# Altium integrated library Microchip PIC16 Part 2.IntLib: 1569 symbols (part 39 of 56)
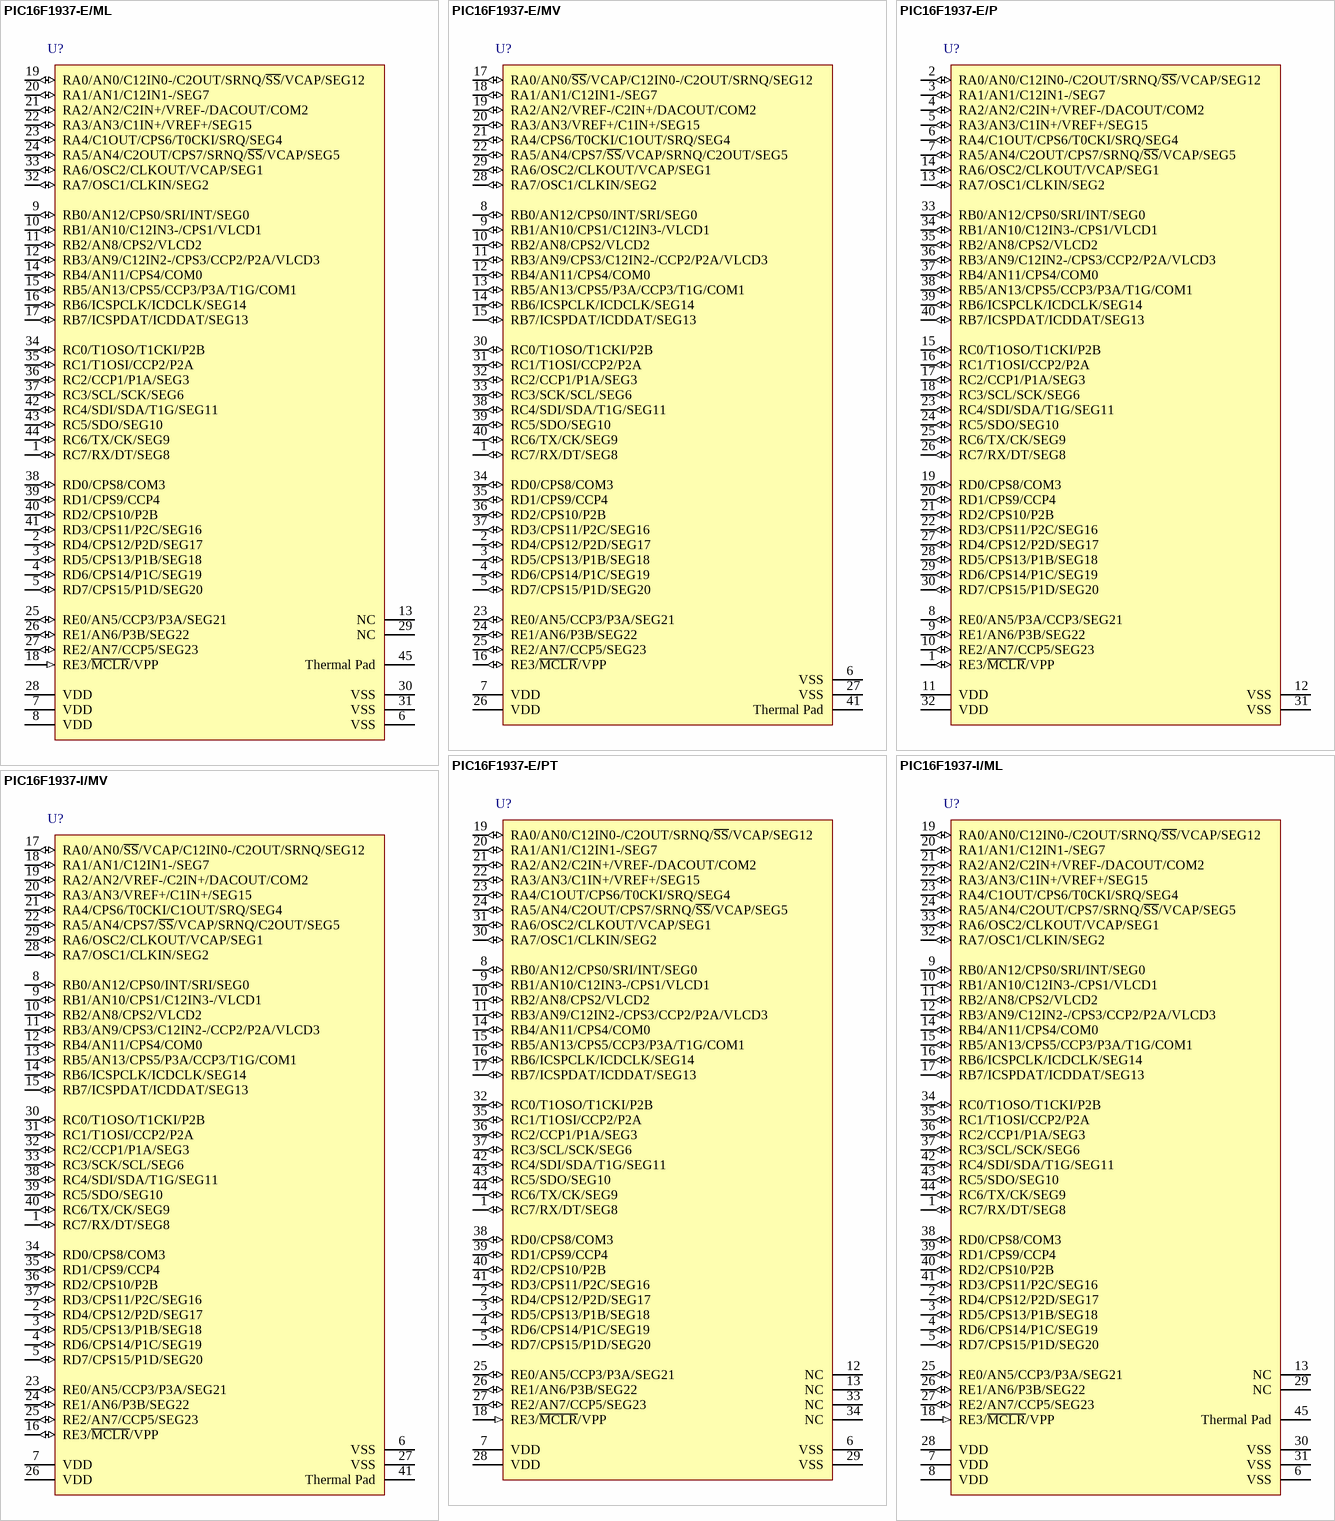
[diagram p163: symbols PIC16F1937-E/ML to PIC16F1937-I/MV]

## PIC16F1937-E/ML
designator U?
CMOS Microcontroller with LCD Driver, 8K (words) Program Memory, 256 Bytes Data Memory, 512 Bytes SRAM, 36 I/O's, 1.8V-5.5V, 44-Pin QFN, Extended Temperature; Manufacturer: Microchip; PartNumber: PIC16F1937-E/ML; DatasheetVersion: revE, May-2011; PackageVersion: revBB, Aug-2009; PackageReference: QFN-ML44; PackageDescription: 44-Lead Plastic Quad Flat, No Lead Package (ML) - 8x8 mm Body [QFN]; Supplier 1: Digi-Key; Supplier Part Number 1: PIC16F1937-E/ML-ND; Supplier 2: Mouser; Supplier Part Number 2: 579-PIC16F1937-E/ML; Code_JEDEC: MO-220; Code_IPC: QFN65P800X800-44V2; ComponentLink1Description: Manufacturer URL; ComponentLink1URL: http://www.microchip.com/; ComponentLink2Description: Datasheet; ComponentLink2URL: http://ww1.microchip.com/downloads/en/DeviceDoc/41364E.pdf; ComponentLink3Description: Package Specification; ComponentLink3URL: http://www.microchip.com/stellent/groups/techpub_sg/documents/packagingspec/en012702.pdf
footprint QFN-ML44_N (QFN, 44-Leads, Body 8x8mm, Pitch 0.65mm, Thermal Pad 6.8x6.8mm, IPC Medium Density)
footprint QFN-ML44_L (QFN, 44-Leads, Body 8x8mm, Pitch 0.65mm, Thermal Pad 6.8x6.8mm, IPC High Density)
footprint QFN-ML44_M (QFN, 44-Leads, Body 8x8mm, Pitch 0.65mm, Thermal Pad 6.8x6.8mm, IPC Low Density)
pins: 1 RC7/RX/DT/SEG8 (io), 2 RD4/CPS12/P2D/SEG17 (io), 3 RD5/CPS13/P1B/SEG18 (io), 4 RD6/CPS14/P1C/SEG19 (io), 5 RD7/CPS15/P1D/SEG20 (io), 6 VSS (power), 7 VDD (power), 8 VDD (power), 9 RB0/AN12/CPS0/SRI/INT/SEG0 (io), 10 RB1/AN10/C12IN3-/CPS1/VLCD1 (io), 11 RB2/AN8/CPS2/VLCD2 (io), 12 RB3/AN9/C12IN2-/CPS3/CCP2/P2A/VLCD3 (io), 13 NC, 14 RB4/AN11/CPS4/COM0 (io), 15 RB5/AN13/CPS5/CCP3/P3A/T1G/COM1 (io), 16 RB6/ICSPCLK/ICDCLK/SEG14 (io), 17 RB7/ICSPDAT/ICDDAT/SEG13 (io), 18 RE3/~{MCLR}/VPP (in), 19 RA0/AN0/C12IN0-/C2OUT/SRNQ/~{SS}/VCAP/SEG12 (io), 20 RA1/AN1/C12IN1-/SEG7 (io), 21 RA2/AN2/C2IN+/VREF-/DACOUT/COM2 (io), 22 RA3/AN3/C1IN+/VREF+/SEG15 (io), 23 RA4/C1OUT/CPS6/T0CKI/SRQ/SEG4 (io), 24 RA5/AN4/C2OUT/CPS7/SRNQ/~{SS}/VCAP/SEG5 (io), 25 RE0/AN5/CCP3/P3A/SEG21 (io), 26 RE1/AN6/P3B/SEG22 (io), 27 RE2/AN7/CCP5/SEG23 (io), 28 VDD (power), 29 NC, 30 VSS (power), 31 VSS (power), 32 RA7/OSC1/CLKIN/SEG2 (io), 33 RA6/OSC2/CLKOUT/VCAP/SEG1 (io), 34 RC0/T1OSO/T1CKI/P2B (io), 35 RC1/T1OSI/CCP2/P2A (io), 36 RC2/CCP1/P1A/SEG3 (io), 37 RC3/SCL/SCK/SEG6 (io), 38 RD0/CPS8/COM3 (io), 39 RD1/CPS9/CCP4 (io), 40 RD2/CPS10/P2B (io), 41 RD3/CPS11/P2C/SEG16 (io), 42 RC4/SDI/SDA/T1G/SEG11 (io), 43 RC5/SDO/SEG10 (io), 44 RC6/TX/CK/SEG9 (io), 45 Thermal Pad (power)

## PIC16F1937-E/MV
designator U?
CMOS Microcontroller with LCD Driver, 8K (words) Program Memory, 256 Bytes Data Memory, 512 Bytes SRAM, 36 I/O's, 1.8V-5.5V, 40-Pin UQFN, Extended Temperature, Tube; Manufacturer: Microchip; PartNumber: PIC16F1937-E/MV; DatasheetVersion: revE, May-2011; PackageVersion: revBJ, Dec-2011; PackageReference: UQFN-MV40; PackageDescription: 40-Lead Plastic Ultra Thin Quad Flat, No Lead Package (MV) - 5x5x0.5 mm Body [UQFN]; Supplier 1: Digi-Key; Supplier Part Number 1: PIC16F1937-E/MV-ND; Supplier 2: Mouser; Supplier Part Number 2: 579-PIC16F1937-E/MV; ComponentLink1Description: Manufacturer URL; ComponentLink1URL: http://www.microchip.com/; ComponentLink2Description: Datasheet; ComponentLink2URL: http://ww1.microchip.com/downloads/en/DeviceDoc/41364E.pdf
footprint UQFN-MV40_N (QFN, 40-Leads, Body 5x5mm, Pitch 0.4mm, Thermal Pad 3.7x3.7mm, IPC Medium Density)
footprint UQFN-MV40_L (QFN, 40-Leads, Body 5x5mm, Pitch 0.4mm, Thermal Pad 3.7x3.7mm, IPC High Density)
footprint UQFN-MV40_M (QFN, 40-Leads, Body 5x5mm, Pitch 0.4mm, Thermal Pad 3.7x3.7mm, IPC Low Density)
pins: 1 RC7/RX/DT/SEG8 (io), 2 RD4/CPS12/P2D/SEG17 (io), 3 RD5/CPS13/P1B/SEG18 (io), 4 RD6/CPS14/P1C/SEG19 (io), 5 RD7/CPS15/P1D/SEG20 (io), 6 VSS (power), 7 VDD (power), 8 RB0/AN12/CPS0/INT/SRI/SEG0 (io), 9 RB1/AN10/CPS1/C12IN3-/VLCD1 (io), 10 RB2/AN8/CPS2/VLCD2 (io), 11 RB3/AN9/CPS3/C12IN2-/CCP2/P2A/VLCD3 (io), 12 RB4/AN11/CPS4/COM0 (io), 13 RB5/AN13/CPS5/P3A/CCP3/T1G/COM1 (io), 14 RB6/ICSPCLK/ICDCLK/SEG14 (io), 15 RB7/ICSPDAT/ICDDAT/SEG13 (io), 16 RE3/~{MCLR}/VPP (io), 17 RA0/AN0/~{SS}/VCAP/C12IN0-/C2OUT/SRNQ/SEG12 (io), 18 RA1/AN1/C12IN1-/SEG7 (io), 19 RA2/AN2/VREF-/C2IN+/DACOUT/COM2 (io), 20 RA3/AN3/VREF+/C1IN+/SEG15 (io), 21 RA4/CPS6/T0CKI/C1OUT/SRQ/SEG4 (io), 22 RA5/AN4/CPS7/~{SS}/VCAP/SRNQ/C2OUT/SEG5 (io), 23 RE0/AN5/CCP3/P3A/SEG21 (io), 24 RE1/AN6/P3B/SEG22 (io), 25 RE2/AN7/CCP5/SEG23 (io), 26 VDD (power), 27 VSS (power), 28 RA7/OSC1/CLKIN/SEG2 (io), 29 RA6/OSC2/CLKOUT/VCAP/SEG1 (io), 30 RC0/T1OSO/T1CKI/P2B (io), 31 RC1/T1OSI/CCP2/P2A (io), 32 RC2/CCP1/P1A/SEG3 (io), 33 RC3/SCK/SCL/SEG6 (io), 34 RD0/CPS8/COM3 (io), 35 RD1/CPS9/CCP4 (io), 36 RD2/CPS10/P2B (io), 37 RD3/CPS11/P2C/SEG16 (io), 38 RC4/SDI/SDA/T1G/SEG11 (io), 39 RC5/SDO/SEG10 (io), 40 RC6/TX/CK/SEG9 (io), 41 Thermal Pad (power)

## PIC16F1937-E/P
designator U?
CMOS Microcontroller with LCD Driver, 8K (words) Program Memory, 256 Bytes Data Memory, 512 Bytes SRAM, 36 I/O's, 1.8V-5.5V, 40-Pin PDIP, Extended Temperature; Manufacturer: Microchip; PartNumber: PIC16F1937-E/P; DatasheetVersion: revE, May-2011; PackageVersion: revBB, Aug-2009; PackageReference: PDIP600-P40; PackageDescription: 40-Lead Plastic Dual In-Line (P) - 600 mil Body [PDIP]; Supplier 1: Digi-Key; Supplier Part Number 1: PIC16F1937-E/P-ND; Supplier 2: Mouser; Supplier Part Number 2: 579-PIC16F1937-E/P; ComponentLink1Description: Manufacturer URL; ComponentLink1URL: http://www.microchip.com/; ComponentLink2Description: Datasheet; ComponentLink2URL: http://ww1.microchip.com/downloads/en/DeviceDoc/41364E.pdf; ComponentLink3Description: Package Specification; ComponentLink3URL: http://www.microchip.com/stellent/groups/techpub_sg/documents/packagingspec/en012702.pdf
footprint PDIP600-P40 (DIP, 40-Leads, Row Spacing 15.24mm, Pitch 2.54mm, Body 51.8x13.5mm)
pins: 1 RE3/~{MCLR}/VPP (io), 2 RA0/AN0/C12IN0-/C2OUT/SRNQ/~{SS}/VCAP/SEG12 (io), 3 RA1/AN1/C12IN1-/SEG7 (io), 4 RA2/AN2/C2IN+/VREF-/DACOUT/COM2 (io), 5 RA3/AN3/C1IN+/VREF+/SEG15 (io), 6 RA4/C1OUT/CPS6/T0CKI/SRQ/SEG4 (io), 7 RA5/AN4/C2OUT/CPS7/SRNQ/~{SS}/VCAP/SEG5 (io), 8 RE0/AN5/P3A/CCP3/SEG21 (io), 9 RE1/AN6/P3B/SEG22 (io), 10 RE2/AN7/CCP5/SEG23 (io), 11 VDD (power), 12 VSS (power), 13 RA7/OSC1/CLKIN/SEG2 (io), 14 RA6/OSC2/CLKOUT/VCAP/SEG1 (io), 15 RC0/T1OSO/T1CKI/P2B (io), 16 RC1/T1OSI/CCP2/P2A (io), 17 RC2/CCP1/P1A/SEG3 (io), 18 RC3/SCL/SCK/SEG6 (io), 19 RD0/CPS8/COM3 (io), 20 RD1/CPS9/CCP4 (io), 21 RD2/CPS10/P2B (io), 22 RD3/CPS11/P2C/SEG16 (io), 23 RC4/SDI/SDA/T1G/SEG11 (io), 24 RC5/SDO/SEG10 (io), 25 RC6/TX/CK/SEG9 (io), 26 RC7/RX/DT/SEG8 (io), 27 RD4/CPS12/P2D/SEG17 (io), 28 RD5/CPS13/P1B/SEG18 (io), 29 RD6/CPS14/P1C/SEG19 (io), 30 RD7/CPS15/P1D/SEG20 (io), 31 VSS (power), 32 VDD (power), 33 RB0/AN12/CPS0/SRI/INT/SEG0 (io), 34 RB1/AN10/C12IN3-/CPS1/VLCD1 (io), 35 RB2/AN8/CPS2/VLCD2 (io), 36 RB3/AN9/C12IN2-/CPS3/CCP2/P2A/VLCD3 (io), 37 RB4/AN11/CPS4/COM0 (io), 38 RB5/AN13/CPS5/CCP3/P3A/T1G/COM1 (io), 39 RB6/ICSPCLK/ICDCLK/SEG14 (io), 40 RB7/ICSPDAT/ICDDAT/SEG13 (io)

## PIC16F1937-E/PT
designator U?
CMOS Microcontroller with LCD Driver, 8K (words) Program Memory, 256 Bytes Data Memory, 512 Bytes SRAM, 36 I/O's, 1.8V-5.5V, 44-Pin TQFP, Extended Temperature, Tray; Manufacturer: Microchip; PartNumber: PIC16F1937-E/PT; DatasheetVersion: revE, May-2011; PackageVersion: revBB, Aug-2009; PackageReference: TQFP-PT44; PackageDescription: 44-Lead Plastic Thin Quad Flatpack (PT) - 10x10x1mm Body, 2.00mm [TQFP]; Supplier 1: Digi-Key; Supplier Part Number 1: PIC16F1937-E/PT-ND; Supplier 2: Mouser; Supplier Part Number 2: 579-PIC16F1937-E/PT; Code_JEDEC: MS-026; ComponentLink1Description: Manufacturer URL; ComponentLink1URL: http://www.microchip.com/; ComponentLink2Description: Datasheet; ComponentLink2URL: http://ww1.microchip.com/downloads/en/DeviceDoc/41364E.pdf
footprint TQFP-PT44_N (Thin QFP, 44-Leads, Body 10x10mm, Pitch 0.8mm, IPC Medium Density)
footprint TQFP-PT44_L (Thin QFP, 44-Leads, Body 10x10mm, Pitch 0.8mm, IPC High Density)
footprint TQFP-PT44_M (Thin QFP, 44-Leads, Body 10x10mm, Pitch 0.8mm, IPC Low Density)
pins: 1 RC7/RX/DT/SEG8 (io), 2 RD4/CPS12/P2D/SEG17 (io), 3 RD5/CPS13/P1B/SEG18 (io), 4 RD6/CPS14/P1C/SEG19 (io), 5 RD7/CPS15/P1D/SEG20 (io), 6 VSS (power), 7 VDD (power), 8 RB0/AN12/CPS0/SRI/INT/SEG0 (io), 9 RB1/AN10/C12IN3-/CPS1/VLCD1 (io), 10 RB2/AN8/CPS2/VLCD2 (io), 11 RB3/AN9/C12IN2-/CPS3/CCP2/P2A/VLCD3 (io), 12 NC, 13 NC, 14 RB4/AN11/CPS4/COM0 (io), 15 RB5/AN13/CPS5/CCP3/P3A/T1G/COM1 (io), 16 RB6/ICSPCLK/ICDCLK/SEG14 (io), 17 RB7/ICSPDAT/ICDDAT/SEG13 (io), 18 RE3/~{MCLR}/VPP (in), 19 RA0/AN0/C12IN0-/C2OUT/SRNQ/~{SS}/VCAP/SEG12 (io), 20 RA1/AN1/C12IN1-/SEG7 (io), 21 RA2/AN2/C2IN+/VREF-/DACOUT/COM2 (io), 22 RA3/AN3/C1IN+/VREF+/SEG15 (io), 23 RA4/C1OUT/CPS6/T0CKI/SRQ/SEG4 (io), 24 RA5/AN4/C2OUT/CPS7/SRNQ/~{SS}/VCAP/SEG5 (io), 25 RE0/AN5/CCP3/P3A/SEG21 (io), 26 RE1/AN6/P3B/SEG22 (io), 27 RE2/AN7/CCP5/SEG23 (io), 28 VDD (power), 29 VSS (power), 30 RA7/OSC1/CLKIN/SEG2 (io), 31 RA6/OSC2/CLKOUT/VCAP/SEG1 (io), 32 RC0/T1OSO/T1CKI/P2B (io), 33 NC, 34 NC, 35 RC1/T1OSI/CCP2/P2A (io), 36 RC2/CCP1/P1A/SEG3 (io), 37 RC3/SCL/SCK/SEG6 (io), 38 RD0/CPS8/COM3 (io), 39 RD1/CPS9/CCP4 (io), 40 RD2/CPS10/P2B (io), 41 RD3/CPS11/P2C/SEG16 (io), 42 RC4/SDI/SDA/T1G/SEG11 (io), 43 RC5/SDO/SEG10 (io), 44 RC6/TX/CK/SEG9 (io)

## PIC16F1937-I/ML
designator U?
CMOS Microcontroller with LCD Driver, 8K (words) Program Memory, 256 Bytes Data Memory, 512 Bytes SRAM, 36 I/O's, 1.8V-5.5V, 44-Pin QFN, Industrial Temperature; Manufacturer: Microchip; PartNumber: PIC16F1937-I/ML; DatasheetVersion: revE, May-2011; PackageVersion: revBB, Aug-2009; PackageReference: QFN-ML44; PackageDescription: 44-Lead Plastic Quad Flat, No Lead Package (ML) - 8x8 mm Body [QFN]; Supplier 1: Digi-Key; Supplier Part Number 1: PIC16F1937-I/ML-ND; Supplier 2: Farnell; Supplier Part Number 2: 1755824; Supplier 3: Mouser; Supplier Part Number 3: 579-PIC16F1937-I/ML; Code_JEDEC: MO-220; Code_IPC: QFN65P800X800-44V2; ComponentLink1Description: Manufacturer URL; ComponentLink1URL: http://www.microchip.com/; ComponentLink2Description: Datasheet; ComponentLink2URL: http://ww1.microchip.com/downloads/en/DeviceDoc/41364E.pdf; ComponentLink3Description: Package Specification; ComponentLink3URL: http://www.microchip.com/stellent/groups/techpub_sg/documents/packagingspec/en012702.pdf
footprint QFN-ML44_N (QFN, 44-Leads, Body 8x8mm, Pitch 0.65mm, Thermal Pad 6.8x6.8mm, IPC Medium Density)
footprint QFN-ML44_L (QFN, 44-Leads, Body 8x8mm, Pitch 0.65mm, Thermal Pad 6.8x6.8mm, IPC High Density)
footprint QFN-ML44_M (QFN, 44-Leads, Body 8x8mm, Pitch 0.65mm, Thermal Pad 6.8x6.8mm, IPC Low Density)
pins: 1 RC7/RX/DT/SEG8 (io), 2 RD4/CPS12/P2D/SEG17 (io), 3 RD5/CPS13/P1B/SEG18 (io), 4 RD6/CPS14/P1C/SEG19 (io), 5 RD7/CPS15/P1D/SEG20 (io), 6 VSS (power), 7 VDD (power), 8 VDD (power), 9 RB0/AN12/CPS0/SRI/INT/SEG0 (io), 10 RB1/AN10/C12IN3-/CPS1/VLCD1 (io), 11 RB2/AN8/CPS2/VLCD2 (io), 12 RB3/AN9/C12IN2-/CPS3/CCP2/P2A/VLCD3 (io), 13 NC, 14 RB4/AN11/CPS4/COM0 (io), 15 RB5/AN13/CPS5/CCP3/P3A/T1G/COM1 (io), 16 RB6/ICSPCLK/ICDCLK/SEG14 (io), 17 RB7/ICSPDAT/ICDDAT/SEG13 (io), 18 RE3/~{MCLR}/VPP (in), 19 RA0/AN0/C12IN0-/C2OUT/SRNQ/~{SS}/VCAP/SEG12 (io), 20 RA1/AN1/C12IN1-/SEG7 (io), 21 RA2/AN2/C2IN+/VREF-/DACOUT/COM2 (io), 22 RA3/AN3/C1IN+/VREF+/SEG15 (io), 23 RA4/C1OUT/CPS6/T0CKI/SRQ/SEG4 (io), 24 RA5/AN4/C2OUT/CPS7/SRNQ/~{SS}/VCAP/SEG5 (io), 25 RE0/AN5/CCP3/P3A/SEG21 (io), 26 RE1/AN6/P3B/SEG22 (io), 27 RE2/AN7/CCP5/SEG23 (io), 28 VDD (power), 29 NC, 30 VSS (power), 31 VSS (power), 32 RA7/OSC1/CLKIN/SEG2 (io), 33 RA6/OSC2/CLKOUT/VCAP/SEG1 (io), 34 RC0/T1OSO/T1CKI/P2B (io), 35 RC1/T1OSI/CCP2/P2A (io), 36 RC2/CCP1/P1A/SEG3 (io), 37 RC3/SCL/SCK/SEG6 (io), 38 RD0/CPS8/COM3 (io), 39 RD1/CPS9/CCP4 (io), 40 RD2/CPS10/P2B (io), 41 RD3/CPS11/P2C/SEG16 (io), 42 RC4/SDI/SDA/T1G/SEG11 (io), 43 RC5/SDO/SEG10 (io), 44 RC6/TX/CK/SEG9 (io), 45 Thermal Pad (power)

## PIC16F1937-I/MV
designator U?
CMOS Microcontroller with LCD Driver, 8K (words) Program Memory, 256 Bytes Data Memory, 512 Bytes SRAM, 36 I/O's, 1.8V-5.5V, 40-Pin UQFN, Industrial Temperature, Tube; Manufacturer: Microchip; PartNumber: PIC16F1937-I/MV; DatasheetVersion: revE, May-2011; PackageVersion: revBJ, Dec-2011; PackageReference: UQFN-MV40; PackageDescription: 40-Lead Plastic Ultra Thin Quad Flat, No Lead Package (MV) - 5x5x0.5 mm Body [UQFN]; Supplier 1: Digi-Key; Supplier Part Number 1: PIC16F1937-I/MV-ND; Supplier 2: Newark; Supplier Part Number 2: 13T4729; Supplier 3: Mouser; Supplier Part Number 3: 579-PIC16F1937-I/MV; ComponentLink1Description: Manufacturer URL; ComponentLink1URL: http://www.microchip.com/; ComponentLink2Description: Datasheet; ComponentLink2URL: http://ww1.microchip.com/downloads/en/DeviceDoc/41364E.pdf
footprint UQFN-MV40_N (QFN, 40-Leads, Body 5x5mm, Pitch 0.4mm, Thermal Pad 3.7x3.7mm, IPC Medium Density)
footprint UQFN-MV40_L (QFN, 40-Leads, Body 5x5mm, Pitch 0.4mm, Thermal Pad 3.7x3.7mm, IPC High Density)
footprint UQFN-MV40_M (QFN, 40-Leads, Body 5x5mm, Pitch 0.4mm, Thermal Pad 3.7x3.7mm, IPC Low Density)
pins: 1 RC7/RX/DT/SEG8 (io), 2 RD4/CPS12/P2D/SEG17 (io), 3 RD5/CPS13/P1B/SEG18 (io), 4 RD6/CPS14/P1C/SEG19 (io), 5 RD7/CPS15/P1D/SEG20 (io), 6 VSS (power), 7 VDD (power), 8 RB0/AN12/CPS0/INT/SRI/SEG0 (io), 9 RB1/AN10/CPS1/C12IN3-/VLCD1 (io), 10 RB2/AN8/CPS2/VLCD2 (io), 11 RB3/AN9/CPS3/C12IN2-/CCP2/P2A/VLCD3 (io), 12 RB4/AN11/CPS4/COM0 (io), 13 RB5/AN13/CPS5/P3A/CCP3/T1G/COM1 (io), 14 RB6/ICSPCLK/ICDCLK/SEG14 (io), 15 RB7/ICSPDAT/ICDDAT/SEG13 (io), 16 RE3/~{MCLR}/VPP (io), 17 RA0/AN0/~{SS}/VCAP/C12IN0-/C2OUT/SRNQ/SEG12 (io), 18 RA1/AN1/C12IN1-/SEG7 (io), 19 RA2/AN2/VREF-/C2IN+/DACOUT/COM2 (io), 20 RA3/AN3/VREF+/C1IN+/SEG15 (io), 21 RA4/CPS6/T0CKI/C1OUT/SRQ/SEG4 (io), 22 RA5/AN4/CPS7/~{SS}/VCAP/SRNQ/C2OUT/SEG5 (io), 23 RE0/AN5/CCP3/P3A/SEG21 (io), 24 RE1/AN6/P3B/SEG22 (io), 25 RE2/AN7/CCP5/SEG23 (io), 26 VDD (power), 27 VSS (power), 28 RA7/OSC1/CLKIN/SEG2 (io), 29 RA6/OSC2/CLKOUT/VCAP/SEG1 (io), 30 RC0/T1OSO/T1CKI/P2B (io), 31 RC1/T1OSI/CCP2/P2A (io), 32 RC2/CCP1/P1A/SEG3 (io), 33 RC3/SCK/SCL/SEG6 (io), 34 RD0/CPS8/COM3 (io), 35 RD1/CPS9/CCP4 (io), 36 RD2/CPS10/P2B (io), 37 RD3/CPS11/P2C/SEG16 (io), 38 RC4/SDI/SDA/T1G/SEG11 (io), 39 RC5/SDO/SEG10 (io), 40 RC6/TX/CK/SEG9 (io), 41 Thermal Pad (power)

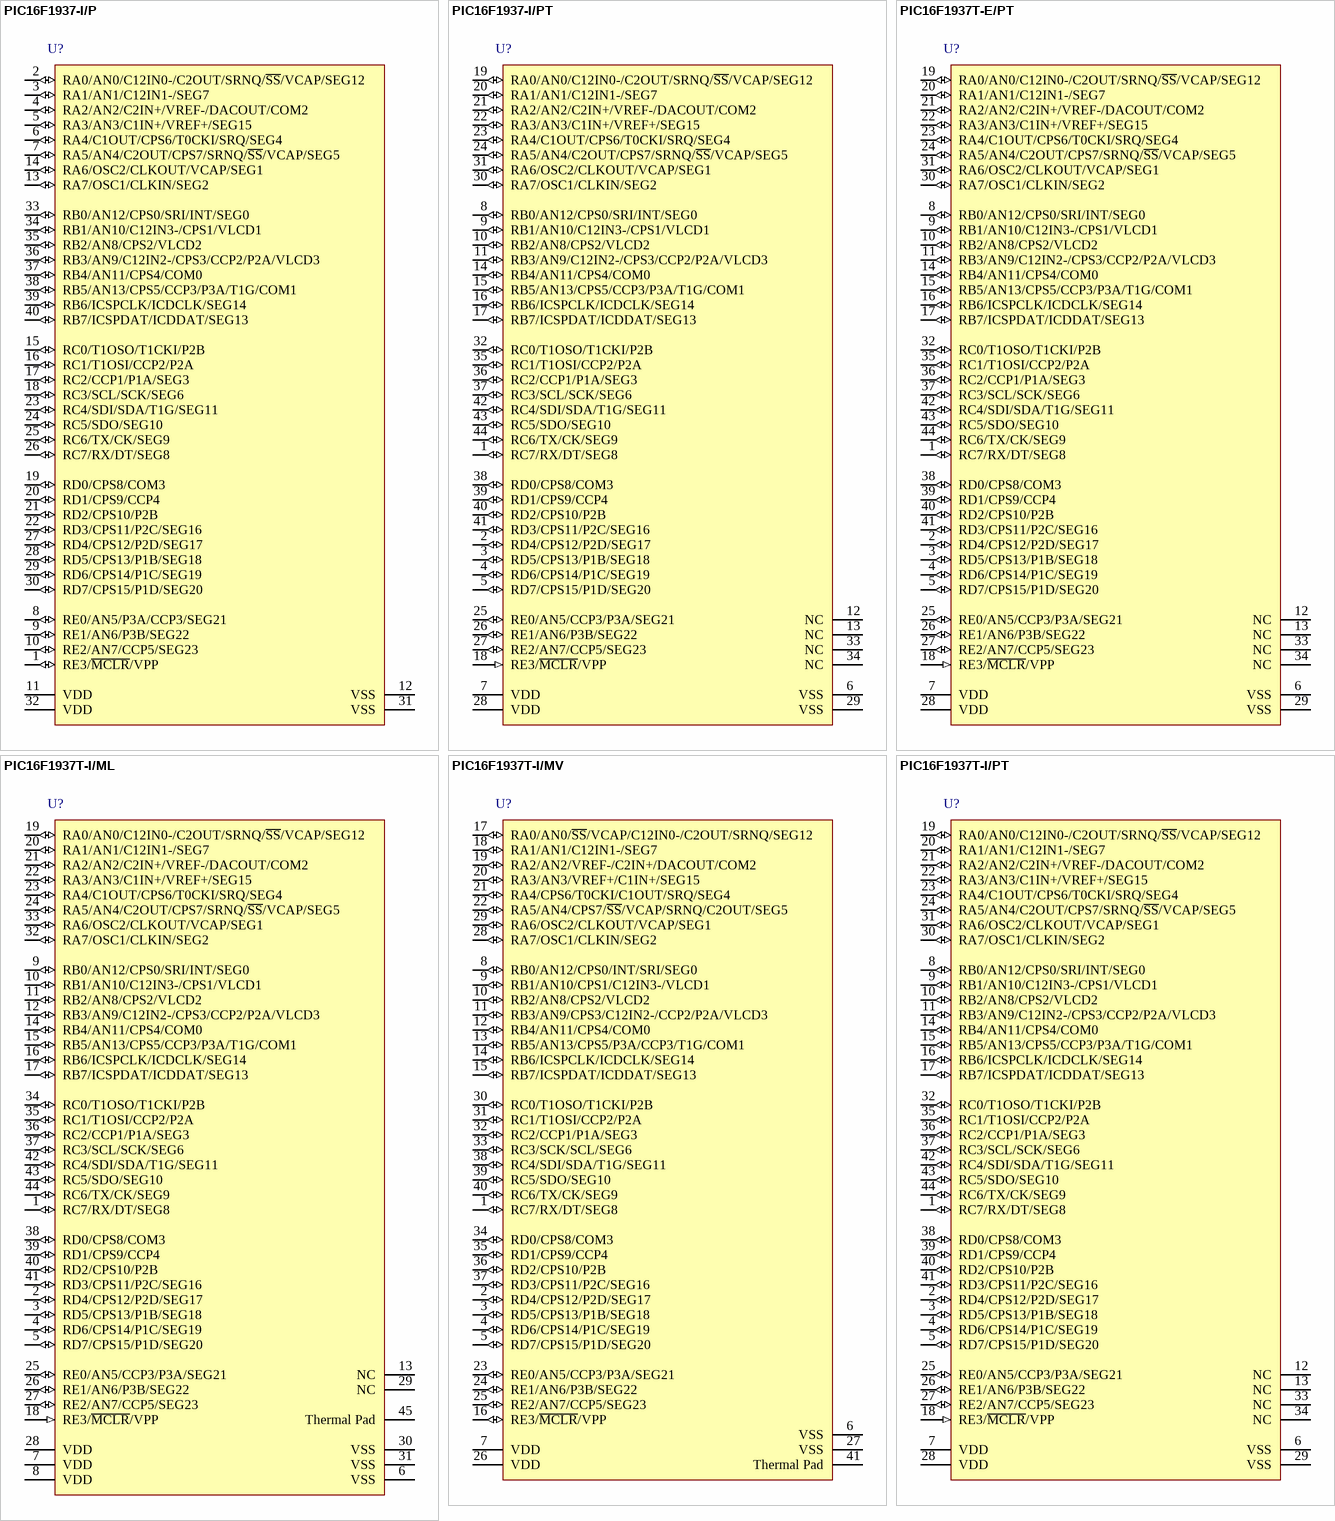
[diagram p84: symbols PIC16F1937-I/P to PIC16F1937T-I/PT]

## PIC16F1937-I/P
designator U?
CMOS Microcontroller with LCD Driver, 8K (words) Program Memory, 256 Bytes Data Memory, 512 Bytes SRAM, 36 I/O's, 1.8V-5.5V, 40-Pin PDIP, Industrial Temperature; Manufacturer: Microchip; PartNumber: PIC16F1937-I/P; DatasheetVersion: revE, May-2011; PackageVersion: revBB, Aug-2009; PackageReference: PDIP600-P40; PackageDescription: 40-Lead Plastic Dual In-Line (P) - 600 mil Body [PDIP]; Supplier 1: Digi-Key; Supplier Part Number 1: PIC16F1937-I/P-ND; Supplier 2: Farnell; Supplier Part Number 2: 1755825; Supplier 3: Newark; Supplier Part Number 3: 45P4774; Supplier 4: Mouser; Supplier Part Number 4: 579-PIC16F1937-I/P; ComponentLink1Description: Manufacturer URL; ComponentLink1URL: http://www.microchip.com/; ComponentLink2Description: Datasheet; ComponentLink2URL: http://ww1.microchip.com/downloads/en/DeviceDoc/41364E.pdf; ComponentLink3Description: Package Specification; ComponentLink3URL: http://www.microchip.com/stellent/groups/techpub_sg/documents/packagingspec/en012702.pdf
footprint PDIP600-P40 (DIP, 40-Leads, Row Spacing 15.24mm, Pitch 2.54mm, Body 51.8x13.5mm)
pins: 1 RE3/~{MCLR}/VPP (io), 2 RA0/AN0/C12IN0-/C2OUT/SRNQ/~{SS}/VCAP/SEG12 (io), 3 RA1/AN1/C12IN1-/SEG7 (io), 4 RA2/AN2/C2IN+/VREF-/DACOUT/COM2 (io), 5 RA3/AN3/C1IN+/VREF+/SEG15 (io), 6 RA4/C1OUT/CPS6/T0CKI/SRQ/SEG4 (io), 7 RA5/AN4/C2OUT/CPS7/SRNQ/~{SS}/VCAP/SEG5 (io), 8 RE0/AN5/P3A/CCP3/SEG21 (io), 9 RE1/AN6/P3B/SEG22 (io), 10 RE2/AN7/CCP5/SEG23 (io), 11 VDD (power), 12 VSS (power), 13 RA7/OSC1/CLKIN/SEG2 (io), 14 RA6/OSC2/CLKOUT/VCAP/SEG1 (io), 15 RC0/T1OSO/T1CKI/P2B (io), 16 RC1/T1OSI/CCP2/P2A (io), 17 RC2/CCP1/P1A/SEG3 (io), 18 RC3/SCL/SCK/SEG6 (io), 19 RD0/CPS8/COM3 (io), 20 RD1/CPS9/CCP4 (io), 21 RD2/CPS10/P2B (io), 22 RD3/CPS11/P2C/SEG16 (io), 23 RC4/SDI/SDA/T1G/SEG11 (io), 24 RC5/SDO/SEG10 (io), 25 RC6/TX/CK/SEG9 (io), 26 RC7/RX/DT/SEG8 (io), 27 RD4/CPS12/P2D/SEG17 (io), 28 RD5/CPS13/P1B/SEG18 (io), 29 RD6/CPS14/P1C/SEG19 (io), 30 RD7/CPS15/P1D/SEG20 (io), 31 VSS (power), 32 VDD (power), 33 RB0/AN12/CPS0/SRI/INT/SEG0 (io), 34 RB1/AN10/C12IN3-/CPS1/VLCD1 (io), 35 RB2/AN8/CPS2/VLCD2 (io), 36 RB3/AN9/C12IN2-/CPS3/CCP2/P2A/VLCD3 (io), 37 RB4/AN11/CPS4/COM0 (io), 38 RB5/AN13/CPS5/CCP3/P3A/T1G/COM1 (io), 39 RB6/ICSPCLK/ICDCLK/SEG14 (io), 40 RB7/ICSPDAT/ICDDAT/SEG13 (io)

## PIC16F1937-I/PT
designator U?
CMOS Microcontroller with LCD Driver, 8K (words) Program Memory, 256 Bytes Data Memory, 512 Bytes SRAM, 36 I/O's, 1.8V-5.5V, 44-Pin TQFP, Industrial Temperature, Tray; Manufacturer: Microchip; PartNumber: PIC16F1937-I/PT; DatasheetVersion: revE, May-2011; PackageVersion: revBB, Aug-2009; PackageReference: TQFP-PT44; PackageDescription: 44-Lead Plastic Thin Quad Flatpack (PT) - 10x10x1mm Body, 2.00mm [TQFP]; Supplier 1: Digi-Key; Supplier Part Number 1: PIC16F1937-I/PT-ND; Supplier 2: Farnell; Supplier Part Number 2: 1755826; Supplier 3: Farnell; Supplier Part Number 3: 1755826MPKG; Supplier 4: Newark; Supplier Part Number 4: 45P4775; Supplier 5: Mouser; Supplier Part Number 5: 579-PIC16F1937-I/PT; Code_JEDEC: MS-026; ComponentLink1Description: Manufacturer URL; ComponentLink1URL: http://www.microchip.com/; ComponentLink2Description: Datasheet; ComponentLink2URL: http://ww1.microchip.com/downloads/en/DeviceDoc/41364E.pdf
footprint TQFP-PT44_N (Thin QFP, 44-Leads, Body 10x10mm, Pitch 0.8mm, IPC Medium Density)
footprint TQFP-PT44_L (Thin QFP, 44-Leads, Body 10x10mm, Pitch 0.8mm, IPC High Density)
footprint TQFP-PT44_M (Thin QFP, 44-Leads, Body 10x10mm, Pitch 0.8mm, IPC Low Density)
pins: 1 RC7/RX/DT/SEG8 (io), 2 RD4/CPS12/P2D/SEG17 (io), 3 RD5/CPS13/P1B/SEG18 (io), 4 RD6/CPS14/P1C/SEG19 (io), 5 RD7/CPS15/P1D/SEG20 (io), 6 VSS (power), 7 VDD (power), 8 RB0/AN12/CPS0/SRI/INT/SEG0 (io), 9 RB1/AN10/C12IN3-/CPS1/VLCD1 (io), 10 RB2/AN8/CPS2/VLCD2 (io), 11 RB3/AN9/C12IN2-/CPS3/CCP2/P2A/VLCD3 (io), 12 NC, 13 NC, 14 RB4/AN11/CPS4/COM0 (io), 15 RB5/AN13/CPS5/CCP3/P3A/T1G/COM1 (io), 16 RB6/ICSPCLK/ICDCLK/SEG14 (io), 17 RB7/ICSPDAT/ICDDAT/SEG13 (io), 18 RE3/~{MCLR}/VPP (in), 19 RA0/AN0/C12IN0-/C2OUT/SRNQ/~{SS}/VCAP/SEG12 (io), 20 RA1/AN1/C12IN1-/SEG7 (io), 21 RA2/AN2/C2IN+/VREF-/DACOUT/COM2 (io), 22 RA3/AN3/C1IN+/VREF+/SEG15 (io), 23 RA4/C1OUT/CPS6/T0CKI/SRQ/SEG4 (io), 24 RA5/AN4/C2OUT/CPS7/SRNQ/~{SS}/VCAP/SEG5 (io), 25 RE0/AN5/CCP3/P3A/SEG21 (io), 26 RE1/AN6/P3B/SEG22 (io), 27 RE2/AN7/CCP5/SEG23 (io), 28 VDD (power), 29 VSS (power), 30 RA7/OSC1/CLKIN/SEG2 (io), 31 RA6/OSC2/CLKOUT/VCAP/SEG1 (io), 32 RC0/T1OSO/T1CKI/P2B (io), 33 NC, 34 NC, 35 RC1/T1OSI/CCP2/P2A (io), 36 RC2/CCP1/P1A/SEG3 (io), 37 RC3/SCL/SCK/SEG6 (io), 38 RD0/CPS8/COM3 (io), 39 RD1/CPS9/CCP4 (io), 40 RD2/CPS10/P2B (io), 41 RD3/CPS11/P2C/SEG16 (io), 42 RC4/SDI/SDA/T1G/SEG11 (io), 43 RC5/SDO/SEG10 (io), 44 RC6/TX/CK/SEG9 (io)

## PIC16F1937T-E/PT
designator U?
CMOS Microcontroller with LCD Driver, 8K (words) Program Memory, 256 Bytes Data Memory, 512 Bytes SRAM, 36 I/O's, 1.8V-5.5V, 44-Pin TQFP, Extended Temperature, Tape and Reel; Manufacturer: Microchip; PartNumber: PIC16F1937T-E/PT; DatasheetVersion: revE, May-2011; PackageVersion: revBB, Aug-2009; PackageReference: TQFP-PT44; PackageDescription: 44-Lead Plastic Thin Quad Flatpack (PT) - 10x10x1mm Body, 2.00mm [TQFP]; Code_JEDEC: MS-026; ComponentLink1Description: Manufacturer URL; ComponentLink1URL: http://www.microchip.com/; ComponentLink2Description: Datasheet; ComponentLink2URL: http://ww1.microchip.com/downloads/en/DeviceDoc/41364E.pdf
footprint TQFP-PT44_N (Thin QFP, 44-Leads, Body 10x10mm, Pitch 0.8mm, IPC Medium Density)
footprint TQFP-PT44_L (Thin QFP, 44-Leads, Body 10x10mm, Pitch 0.8mm, IPC High Density)
footprint TQFP-PT44_M (Thin QFP, 44-Leads, Body 10x10mm, Pitch 0.8mm, IPC Low Density)
pins: 1 RC7/RX/DT/SEG8 (io), 2 RD4/CPS12/P2D/SEG17 (io), 3 RD5/CPS13/P1B/SEG18 (io), 4 RD6/CPS14/P1C/SEG19 (io), 5 RD7/CPS15/P1D/SEG20 (io), 6 VSS (power), 7 VDD (power), 8 RB0/AN12/CPS0/SRI/INT/SEG0 (io), 9 RB1/AN10/C12IN3-/CPS1/VLCD1 (io), 10 RB2/AN8/CPS2/VLCD2 (io), 11 RB3/AN9/C12IN2-/CPS3/CCP2/P2A/VLCD3 (io), 12 NC, 13 NC, 14 RB4/AN11/CPS4/COM0 (io), 15 RB5/AN13/CPS5/CCP3/P3A/T1G/COM1 (io), 16 RB6/ICSPCLK/ICDCLK/SEG14 (io), 17 RB7/ICSPDAT/ICDDAT/SEG13 (io), 18 RE3/~{MCLR}/VPP (in), 19 RA0/AN0/C12IN0-/C2OUT/SRNQ/~{SS}/VCAP/SEG12 (io), 20 RA1/AN1/C12IN1-/SEG7 (io), 21 RA2/AN2/C2IN+/VREF-/DACOUT/COM2 (io), 22 RA3/AN3/C1IN+/VREF+/SEG15 (io), 23 RA4/C1OUT/CPS6/T0CKI/SRQ/SEG4 (io), 24 RA5/AN4/C2OUT/CPS7/SRNQ/~{SS}/VCAP/SEG5 (io), 25 RE0/AN5/CCP3/P3A/SEG21 (io), 26 RE1/AN6/P3B/SEG22 (io), 27 RE2/AN7/CCP5/SEG23 (io), 28 VDD (power), 29 VSS (power), 30 RA7/OSC1/CLKIN/SEG2 (io), 31 RA6/OSC2/CLKOUT/VCAP/SEG1 (io), 32 RC0/T1OSO/T1CKI/P2B (io), 33 NC, 34 NC, 35 RC1/T1OSI/CCP2/P2A (io), 36 RC2/CCP1/P1A/SEG3 (io), 37 RC3/SCL/SCK/SEG6 (io), 38 RD0/CPS8/COM3 (io), 39 RD1/CPS9/CCP4 (io), 40 RD2/CPS10/P2B (io), 41 RD3/CPS11/P2C/SEG16 (io), 42 RC4/SDI/SDA/T1G/SEG11 (io), 43 RC5/SDO/SEG10 (io), 44 RC6/TX/CK/SEG9 (io)

## PIC16F1937T-I/ML
designator U?
CMOS Microcontroller with LCD Driver, 8K (words) Program Memory, 256 Bytes Data Memory, 512 Bytes SRAM, 36 I/O's, 1.8V-5.5V, 44-Pin QFN, Industrial Temperature, Tape and Reel; Manufacturer: Microchip; PartNumber: PIC16F1937T-I/ML; DatasheetVersion: revE, May-2011; PackageVersion: revBB, Aug-2009; PackageReference: QFN-ML44; PackageDescription: 44-Lead Plastic Quad Flat, No Lead Package (ML) - 8x8 mm Body [QFN]; Supplier 1: Digi-Key; Supplier Part Number 1: PIC16F1937T-I/ML-ND; Supplier 2: Mouser; Supplier Part Number 2: 579-PIC16F1937T-I/ML; Code_JEDEC: MO-220; Code_IPC: QFN65P800X800-44V2; ComponentLink1Description: Manufacturer URL; ComponentLink1URL: http://www.microchip.com/; ComponentLink2Description: Datasheet; ComponentLink2URL: http://ww1.microchip.com/downloads/en/DeviceDoc/41364E.pdf; ComponentLink3Description: Package Specification; ComponentLink3URL: http://www.microchip.com/stellent/groups/techpub_sg/documents/packagingspec/en012702.pdf
footprint QFN-ML44_N (QFN, 44-Leads, Body 8x8mm, Pitch 0.65mm, Thermal Pad 6.8x6.8mm, IPC Medium Density)
footprint QFN-ML44_L (QFN, 44-Leads, Body 8x8mm, Pitch 0.65mm, Thermal Pad 6.8x6.8mm, IPC High Density)
footprint QFN-ML44_M (QFN, 44-Leads, Body 8x8mm, Pitch 0.65mm, Thermal Pad 6.8x6.8mm, IPC Low Density)
pins: 1 RC7/RX/DT/SEG8 (io), 2 RD4/CPS12/P2D/SEG17 (io), 3 RD5/CPS13/P1B/SEG18 (io), 4 RD6/CPS14/P1C/SEG19 (io), 5 RD7/CPS15/P1D/SEG20 (io), 6 VSS (power), 7 VDD (power), 8 VDD (power), 9 RB0/AN12/CPS0/SRI/INT/SEG0 (io), 10 RB1/AN10/C12IN3-/CPS1/VLCD1 (io), 11 RB2/AN8/CPS2/VLCD2 (io), 12 RB3/AN9/C12IN2-/CPS3/CCP2/P2A/VLCD3 (io), 13 NC, 14 RB4/AN11/CPS4/COM0 (io), 15 RB5/AN13/CPS5/CCP3/P3A/T1G/COM1 (io), 16 RB6/ICSPCLK/ICDCLK/SEG14 (io), 17 RB7/ICSPDAT/ICDDAT/SEG13 (io), 18 RE3/~{MCLR}/VPP (in), 19 RA0/AN0/C12IN0-/C2OUT/SRNQ/~{SS}/VCAP/SEG12 (io), 20 RA1/AN1/C12IN1-/SEG7 (io), 21 RA2/AN2/C2IN+/VREF-/DACOUT/COM2 (io), 22 RA3/AN3/C1IN+/VREF+/SEG15 (io), 23 RA4/C1OUT/CPS6/T0CKI/SRQ/SEG4 (io), 24 RA5/AN4/C2OUT/CPS7/SRNQ/~{SS}/VCAP/SEG5 (io), 25 RE0/AN5/CCP3/P3A/SEG21 (io), 26 RE1/AN6/P3B/SEG22 (io), 27 RE2/AN7/CCP5/SEG23 (io), 28 VDD (power), 29 NC, 30 VSS (power), 31 VSS (power), 32 RA7/OSC1/CLKIN/SEG2 (io), 33 RA6/OSC2/CLKOUT/VCAP/SEG1 (io), 34 RC0/T1OSO/T1CKI/P2B (io), 35 RC1/T1OSI/CCP2/P2A (io), 36 RC2/CCP1/P1A/SEG3 (io), 37 RC3/SCL/SCK/SEG6 (io), 38 RD0/CPS8/COM3 (io), 39 RD1/CPS9/CCP4 (io), 40 RD2/CPS10/P2B (io), 41 RD3/CPS11/P2C/SEG16 (io), 42 RC4/SDI/SDA/T1G/SEG11 (io), 43 RC5/SDO/SEG10 (io), 44 RC6/TX/CK/SEG9 (io), 45 Thermal Pad (power)

## PIC16F1937T-I/MV
designator U?
CMOS Microcontroller with LCD Driver, 8K (words) Program Memory, 256 Bytes Data Memory, 512 Bytes SRAM, 36 I/O's, 1.8V-5.5V, 40-Pin UQFN, Industrial Temperature, Tape and Reel; Manufacturer: Microchip; PartNumber: PIC16F1937T-I/MV; DatasheetVersion: revE, May-2011; PackageVersion: revBJ, Dec-2011; PackageReference: UQFN-MV40; PackageDescription: 40-Lead Plastic Ultra Thin Quad Flat, No Lead Package (MV) - 5x5x0.5 mm Body [UQFN]; Supplier 1: Digi-Key; Supplier Part Number 1: PIC16F1937T-I/MV-ND; Supplier 2: Mouser; Supplier Part Number 2: 579-PIC16F1937T-I/MV; ComponentLink1Description: Manufacturer URL; ComponentLink1URL: http://www.microchip.com/; ComponentLink2Description: Datasheet; ComponentLink2URL: http://ww1.microchip.com/downloads/en/DeviceDoc/41364E.pdf
footprint UQFN-MV40_N (QFN, 40-Leads, Body 5x5mm, Pitch 0.4mm, Thermal Pad 3.7x3.7mm, IPC Medium Density)
footprint UQFN-MV40_L (QFN, 40-Leads, Body 5x5mm, Pitch 0.4mm, Thermal Pad 3.7x3.7mm, IPC High Density)
footprint UQFN-MV40_M (QFN, 40-Leads, Body 5x5mm, Pitch 0.4mm, Thermal Pad 3.7x3.7mm, IPC Low Density)
pins: 1 RC7/RX/DT/SEG8 (io), 2 RD4/CPS12/P2D/SEG17 (io), 3 RD5/CPS13/P1B/SEG18 (io), 4 RD6/CPS14/P1C/SEG19 (io), 5 RD7/CPS15/P1D/SEG20 (io), 6 VSS (power), 7 VDD (power), 8 RB0/AN12/CPS0/INT/SRI/SEG0 (io), 9 RB1/AN10/CPS1/C12IN3-/VLCD1 (io), 10 RB2/AN8/CPS2/VLCD2 (io), 11 RB3/AN9/CPS3/C12IN2-/CCP2/P2A/VLCD3 (io), 12 RB4/AN11/CPS4/COM0 (io), 13 RB5/AN13/CPS5/P3A/CCP3/T1G/COM1 (io), 14 RB6/ICSPCLK/ICDCLK/SEG14 (io), 15 RB7/ICSPDAT/ICDDAT/SEG13 (io), 16 RE3/~{MCLR}/VPP (io), 17 RA0/AN0/~{SS}/VCAP/C12IN0-/C2OUT/SRNQ/SEG12 (io), 18 RA1/AN1/C12IN1-/SEG7 (io), 19 RA2/AN2/VREF-/C2IN+/DACOUT/COM2 (io), 20 RA3/AN3/VREF+/C1IN+/SEG15 (io), 21 RA4/CPS6/T0CKI/C1OUT/SRQ/SEG4 (io), 22 RA5/AN4/CPS7/~{SS}/VCAP/SRNQ/C2OUT/SEG5 (io), 23 RE0/AN5/CCP3/P3A/SEG21 (io), 24 RE1/AN6/P3B/SEG22 (io), 25 RE2/AN7/CCP5/SEG23 (io), 26 VDD (power), 27 VSS (power), 28 RA7/OSC1/CLKIN/SEG2 (io), 29 RA6/OSC2/CLKOUT/VCAP/SEG1 (io), 30 RC0/T1OSO/T1CKI/P2B (io), 31 RC1/T1OSI/CCP2/P2A (io), 32 RC2/CCP1/P1A/SEG3 (io), 33 RC3/SCK/SCL/SEG6 (io), 34 RD0/CPS8/COM3 (io), 35 RD1/CPS9/CCP4 (io), 36 RD2/CPS10/P2B (io), 37 RD3/CPS11/P2C/SEG16 (io), 38 RC4/SDI/SDA/T1G/SEG11 (io), 39 RC5/SDO/SEG10 (io), 40 RC6/TX/CK/SEG9 (io), 41 Thermal Pad (power)

## PIC16F1937T-I/PT
designator U?
CMOS Microcontroller with LCD Driver, 8K (words) Program Memory, 256 Bytes Data Memory, 512 Bytes SRAM, 36 I/O's, 1.8V-5.5V, 44-Pin TQFP, Industrial Temperature, Tape and Reel; Manufacturer: Microchip; PartNumber: PIC16F1937T-I/PT; DatasheetVersion: revE, May-2011; PackageVersion: revBB, Aug-2009; PackageReference: TQFP-PT44; PackageDescription: 44-Lead Plastic Thin Quad Flatpack (PT) - 10x10x1mm Body, 2.00mm [TQFP]; Supplier 1: Digi-Key; Supplier Part Number 1: PIC16F1937T-I/PT-ND; Supplier 2: Newark; Supplier Part Number 2: 45P4777; Supplier 3: Mouser; Supplier Part Number 3: 579-PIC16F1937T-I/PT; Code_JEDEC: MS-026; ComponentLink1Description: Manufacturer URL; ComponentLink1URL: http://www.microchip.com/; ComponentLink2Description: Datasheet; ComponentLink2URL: http://ww1.microchip.com/downloads/en/DeviceDoc/41364E.pdf
footprint TQFP-PT44_N (Thin QFP, 44-Leads, Body 10x10mm, Pitch 0.8mm, IPC Medium Density)
footprint TQFP-PT44_L (Thin QFP, 44-Leads, Body 10x10mm, Pitch 0.8mm, IPC High Density)
footprint TQFP-PT44_M (Thin QFP, 44-Leads, Body 10x10mm, Pitch 0.8mm, IPC Low Density)
pins: 1 RC7/RX/DT/SEG8 (io), 2 RD4/CPS12/P2D/SEG17 (io), 3 RD5/CPS13/P1B/SEG18 (io), 4 RD6/CPS14/P1C/SEG19 (io), 5 RD7/CPS15/P1D/SEG20 (io), 6 VSS (power), 7 VDD (power), 8 RB0/AN12/CPS0/SRI/INT/SEG0 (io), 9 RB1/AN10/C12IN3-/CPS1/VLCD1 (io), 10 RB2/AN8/CPS2/VLCD2 (io), 11 RB3/AN9/C12IN2-/CPS3/CCP2/P2A/VLCD3 (io), 12 NC, 13 NC, 14 RB4/AN11/CPS4/COM0 (io), 15 RB5/AN13/CPS5/CCP3/P3A/T1G/COM1 (io), 16 RB6/ICSPCLK/ICDCLK/SEG14 (io), 17 RB7/ICSPDAT/ICDDAT/SEG13 (io), 18 RE3/~{MCLR}/VPP (in), 19 RA0/AN0/C12IN0-/C2OUT/SRNQ/~{SS}/VCAP/SEG12 (io), 20 RA1/AN1/C12IN1-/SEG7 (io), 21 RA2/AN2/C2IN+/VREF-/DACOUT/COM2 (io), 22 RA3/AN3/C1IN+/VREF+/SEG15 (io), 23 RA4/C1OUT/CPS6/T0CKI/SRQ/SEG4 (io), 24 RA5/AN4/C2OUT/CPS7/SRNQ/~{SS}/VCAP/SEG5 (io), 25 RE0/AN5/CCP3/P3A/SEG21 (io), 26 RE1/AN6/P3B/SEG22 (io), 27 RE2/AN7/CCP5/SEG23 (io), 28 VDD (power), 29 VSS (power), 30 RA7/OSC1/CLKIN/SEG2 (io), 31 RA6/OSC2/CLKOUT/VCAP/SEG1 (io), 32 RC0/T1OSO/T1CKI/P2B (io), 33 NC, 34 NC, 35 RC1/T1OSI/CCP2/P2A (io), 36 RC2/CCP1/P1A/SEG3 (io), 37 RC3/SCL/SCK/SEG6 (io), 38 RD0/CPS8/COM3 (io), 39 RD1/CPS9/CCP4 (io), 40 RD2/CPS10/P2B (io), 41 RD3/CPS11/P2C/SEG16 (io), 42 RC4/SDI/SDA/T1G/SEG11 (io), 43 RC5/SDO/SEG10 (io), 44 RC6/TX/CK/SEG9 (io)

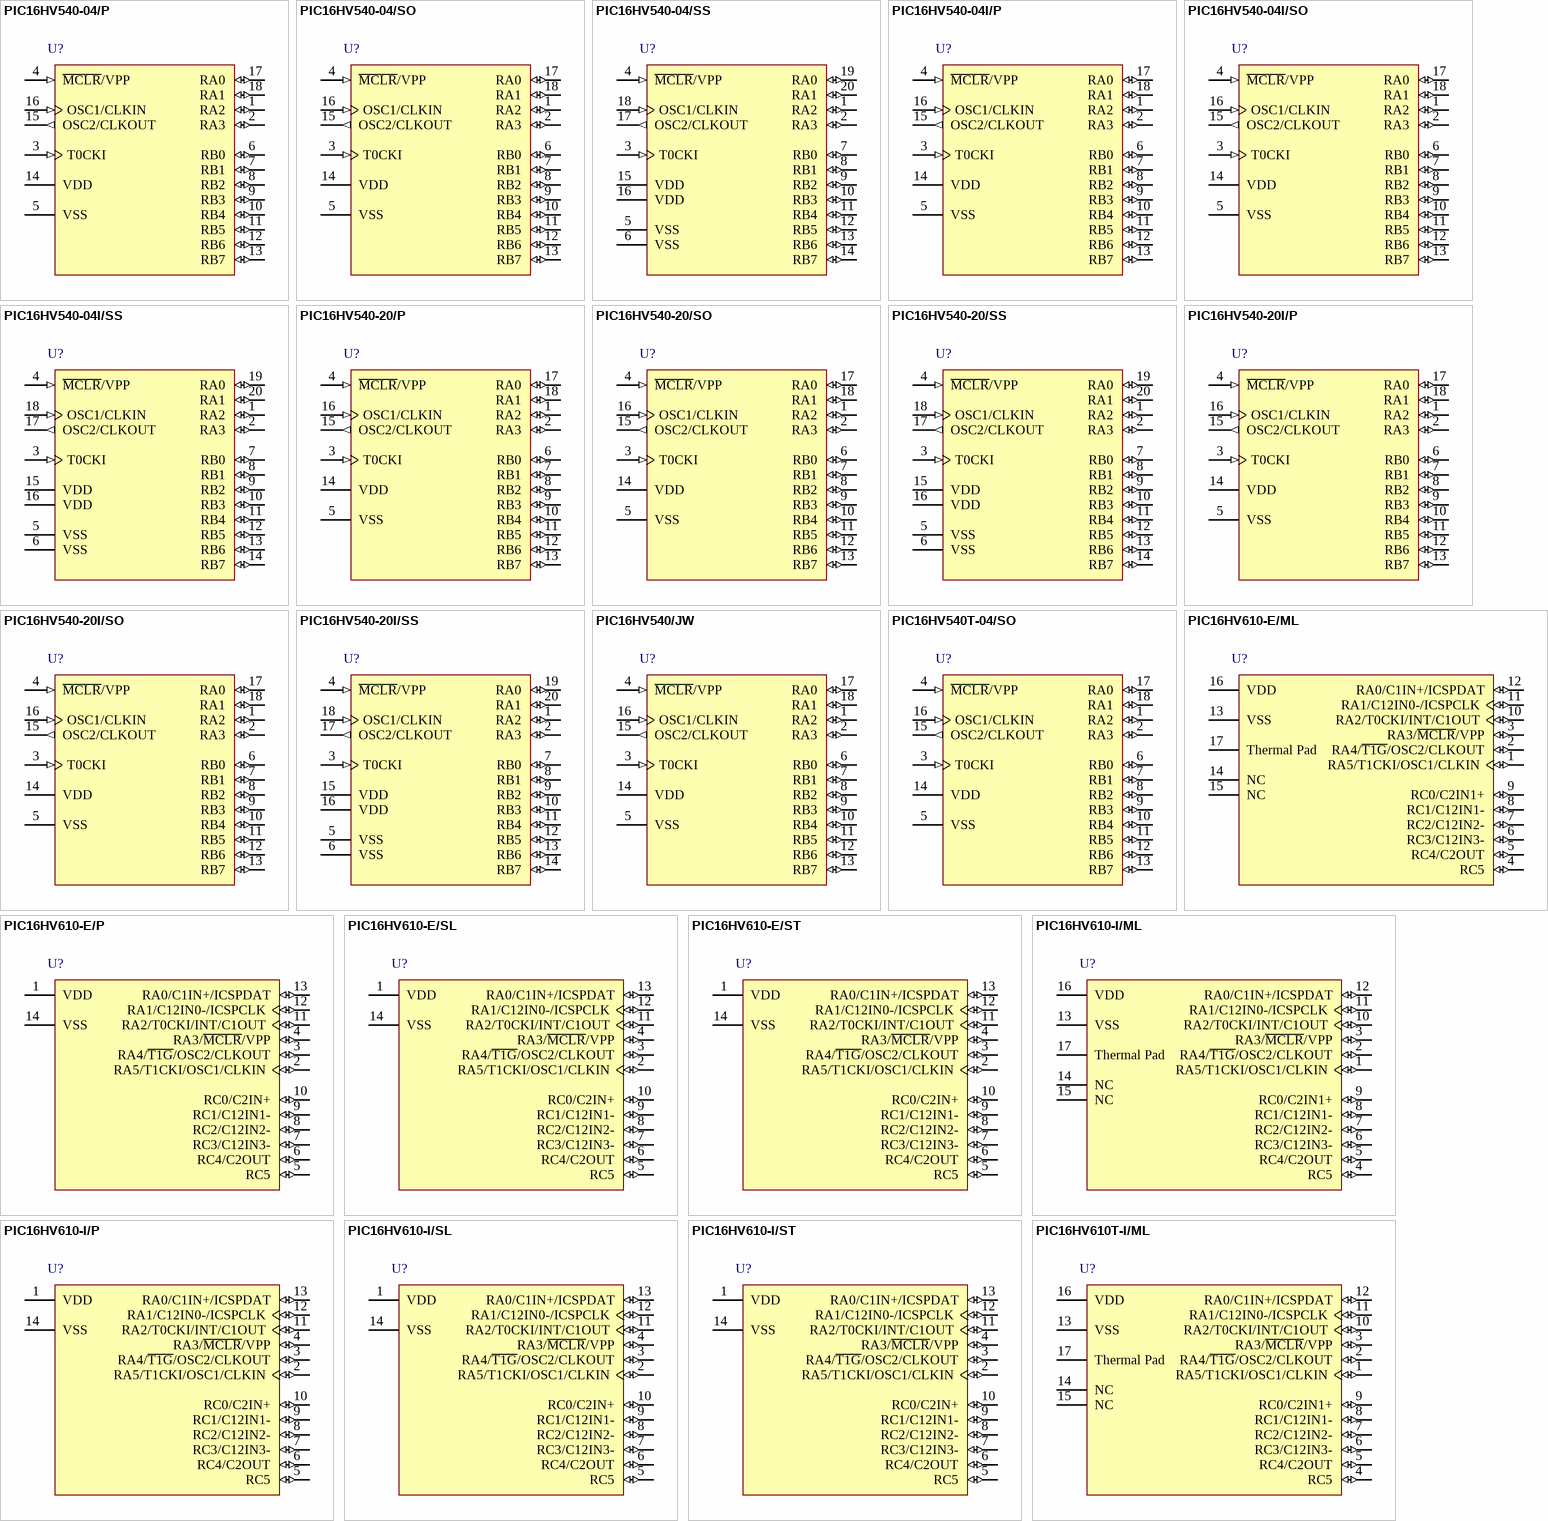
[diagram p85: symbols PIC16HV540-04/P to PIC16HV610T-I/ML]

## PIC16HV540-04/P
designator U?
Enhanced PIC16C54 EPROM-Based 8-Bit CMOS Microcontroller with On-Chip Voltage Regulator, 4 MHz, 18-Pin PDIP, 3.5 to 15V Supply Range, Commercial Temperature; Manufacturer: Microchip; PartNumber: PIC16HV540-04/P; DatasheetVersion: revB, Mar-2002; PackageVersion: revBB, Aug-2009; PackageReference: PDIP300-P18; PackageDescription: 18-Lead Plastic Dual In-Line (P) - 300 mil Body [PDIP]; Supplier 1: Digi-Key; Supplier Part Number 1: PIC16HV540-04/P-ND; Supplier 2: Farnell; Supplier Part Number 2: 9761527; Supplier 3: Newark; Supplier Part Number 3: 23C5118; Supplier 4: Mouser; Supplier Part Number 4: 579-PIC16HV540-04/P; Code_JEDEC: MS-001; ComponentLink1Description: Manufacturer URL; ComponentLink1URL: http://www.microchip.com/; ComponentLink2Description: Datasheet; ComponentLink2URL: http://ww1.microchip.com/downloads/en/DeviceDoc/40197b.pdf; ComponentLink3Description: Package Specification; ComponentLink3URL: http://www.microchip.com/stellent/groups/techpub_sg/documents/packagingspec/en012702.pdf
footprint PDIP300-P18 (DIP, 18-Leads, Row Spacing 7.62mm, Pitch 2.54mm, Body 22.9x6.6mm)
pins: 1 RA2 (io), 2 RA3 (io), 3 T0CKI (in), 4 ~{MCLR}/VPP (in), 5 VSS (power), 6 RB0 (io), 7 RB1 (io), 8 RB2 (io), 9 RB3 (io), 10 RB4 (io), 11 RB5 (io), 12 RB6 (io), 13 RB7 (io), 14 VDD (power), 15 OSC2/CLKOUT (out), 16 OSC1/CLKIN (in), 17 RA0 (io), 18 RA1 (io)

## PIC16HV540-04/SO
designator U?
Enhanced PIC16C54 EPROM-Based 8-Bit CMOS Microcontroller with On-Chip Voltage Regulator, 4 MHz, 18-Pin SOIC, 3.5 to 15V Supply Range, Commercial Temperature; Manufacturer: Microchip; PartNumber: PIC16HV540-04/SO; DatasheetVersion: revB, Mar-2002; PackageVersion: revBB, Aug-2009; PackageReference: SOIC-SO18; PackageDescription: 18-Lead Plastic Small Outline (SO) - Wide 7.50mm Body [SOIC]; Supplier 1: Digi-Key; Supplier Part Number 1: PIC16HV540-04/SO-ND; Supplier 2: Newark; Supplier Part Number 2: 23C5119; Supplier 3: Mouser; Supplier Part Number 3: 579-PIC16HV540-04/SO; Code_JEDEC: MS-013; ComponentLink1Description: Manufacturer URL; ComponentLink1URL: http://www.microchip.com/; ComponentLink2Description: Datasheet; ComponentLink2URL: http://ww1.microchip.com/downloads/en/DeviceDoc/40197b.pdf; ComponentLink3Description: Package Specification; ComponentLink3URL: http://www.microchip.com/stellent/groups/techpub_sg/documents/packagingspec/en012702.pdf
footprint SOIC-SO18_N (SOIC, 18-Leads, Body 11.5x7.5mm, Pitch 1.27mm, IPC Medium Density)
footprint SOIC-SO18_L (SOIC, 18-Leads, Body 11.5x7.5mm, Pitch 1.27mm, IPC High Density)
footprint SOIC-SO18_M (SOIC, 18-Leads, Body 11.5x7.5mm, Pitch 1.27mm, IPC Low Density)
pins: 1 RA2 (io), 2 RA3 (io), 3 T0CKI (in), 4 ~{MCLR}/VPP (in), 5 VSS (power), 6 RB0 (io), 7 RB1 (io), 8 RB2 (io), 9 RB3 (io), 10 RB4 (io), 11 RB5 (io), 12 RB6 (io), 13 RB7 (io), 14 VDD (power), 15 OSC2/CLKOUT (out), 16 OSC1/CLKIN (in), 17 RA0 (io), 18 RA1 (io)

## PIC16HV540-04/SS
designator U?
Enhanced PIC16C54 EPROM-Based 8-Bit CMOS Microcontroller with On-Chip Voltage Regulator, 4 MHz, 20-Pin SSOP, 3.5 to 15V Supply Range, Commercial Temperature; Manufacturer: Microchip; PartNumber: PIC16HV540-04/SS; DatasheetVersion: revB, Mar-2002; PackageVersion: revBB, Aug-2009; PackageReference: SSOP-SS20; PackageDescription: 20-Lead Plastic Shrink Small Outline (SS) - 5.3mm Body [SSOP]; Supplier 1: Digi-Key; Supplier Part Number 1: PIC16HV540-04/SS-ND; Supplier 2: Mouser; Supplier Part Number 2: 579-PIC16HV540-04/SS; Code_JEDEC: MO-150; ComponentLink1Description: Manufacturer URL; ComponentLink1URL: http://www.microchip.com/; ComponentLink2Description: Datasheet; ComponentLink2URL: http://ww1.microchip.com/downloads/en/DeviceDoc/40197b.pdf; ComponentLink3Description: Package Specification; ComponentLink3URL: http://www.microchip.com/stellent/groups/techpub_sg/documents/packagingspec/en012702.pdf
footprint SSOP-SS20_N (SOP, 20-Leads, Body 7.2x5.2mm, Pitch 0.65mm, IPC Medium Density)
footprint SSOP-SS20_L (SOP, 20-Leads, Body 7.2x5.2mm, Pitch 0.65mm, IPC High Density)
footprint SSOP-SS20_M (SOP, 20-Leads, Body 7.2x5.2mm, Pitch 0.65mm, IPC Low Density)
pins: 1 RA2 (io), 2 RA3 (io), 3 T0CKI (in), 4 ~{MCLR}/VPP (in), 5 VSS (power), 6 VSS (power), 7 RB0 (io), 8 RB1 (io), 9 RB2 (io), 10 RB3 (io), 11 RB4 (io), 12 RB5 (io), 13 RB6 (io), 14 RB7 (io), 15 VDD (power), 16 VDD (power), 17 OSC2/CLKOUT (out), 18 OSC1/CLKIN (in), 19 RA0 (io), 20 RA1 (io)

## PIC16HV540-04I/P
designator U?
Enhanced PIC16C54 EPROM-Based 8-Bit CMOS Microcontroller with On-Chip Voltage Regulator, 4 MHz, 18-Pin PDIP, 3.5 to 15V Supply Range, Industrial Temperature; Manufacturer: Microchip; PartNumber: PIC16HV540-04I/P; DatasheetVersion: revB, Mar-2002; PackageVersion: revBB, Aug-2009; PackageReference: PDIP300-P18; PackageDescription: 18-Lead Plastic Dual In-Line (P) - 300 mil Body [PDIP]; Supplier 1: Digi-Key; Supplier Part Number 1: PIC16HV540-04I/P-ND; Supplier 2: Newark; Supplier Part Number 2: 23C5121; Supplier 3: Mouser; Supplier Part Number 3: 579-PIC16HV540-04I/P; Code_JEDEC: MS-001; ComponentLink1Description: Manufacturer URL; ComponentLink1URL: http://www.microchip.com/; ComponentLink2Description: Datasheet; ComponentLink2URL: http://ww1.microchip.com/downloads/en/DeviceDoc/40197b.pdf; ComponentLink3Description: Package Specification; ComponentLink3URL: http://www.microchip.com/stellent/groups/techpub_sg/documents/packagingspec/en012702.pdf
footprint PDIP300-P18 (DIP, 18-Leads, Row Spacing 7.62mm, Pitch 2.54mm, Body 22.9x6.6mm)
pins: 1 RA2 (io), 2 RA3 (io), 3 T0CKI (in), 4 ~{MCLR}/VPP (in), 5 VSS (power), 6 RB0 (io), 7 RB1 (io), 8 RB2 (io), 9 RB3 (io), 10 RB4 (io), 11 RB5 (io), 12 RB6 (io), 13 RB7 (io), 14 VDD (power), 15 OSC2/CLKOUT (out), 16 OSC1/CLKIN (in), 17 RA0 (io), 18 RA1 (io)

## PIC16HV540-04I/SO
designator U?
Enhanced PIC16C54 EPROM-Based 8-Bit CMOS Microcontroller with On-Chip Voltage Regulator, 4 MHz, 18-Pin SOIC, 3.5 to 15V Supply Range, Industrial Temperature; Manufacturer: Microchip; PartNumber: PIC16HV540-04I/SO; DatasheetVersion: revB, Mar-2002; PackageVersion: revBB, Aug-2009; PackageReference: SOIC-SO18; PackageDescription: 18-Lead Plastic Small Outline (SO) - Wide 7.50mm Body [SOIC]; Supplier 1: Digi-Key; Supplier Part Number 1: PIC16HV540-04I/SO-ND; Supplier 2: Farnell; Supplier Part Number 2: 9761535; Supplier 3: Mouser; Supplier Part Number 3: 579-16HV540-04I/SO; Code_JEDEC: MS-013; ComponentLink1Description: Manufacturer URL; ComponentLink1URL: http://www.microchip.com/; ComponentLink2Description: Datasheet; ComponentLink2URL: http://ww1.microchip.com/downloads/en/DeviceDoc/40197b.pdf; ComponentLink3Description: Package Specification; ComponentLink3URL: http://www.microchip.com/stellent/groups/techpub_sg/documents/packagingspec/en012702.pdf
footprint SOIC-SO18_N (SOIC, 18-Leads, Body 11.5x7.5mm, Pitch 1.27mm, IPC Medium Density)
footprint SOIC-SO18_L (SOIC, 18-Leads, Body 11.5x7.5mm, Pitch 1.27mm, IPC High Density)
footprint SOIC-SO18_M (SOIC, 18-Leads, Body 11.5x7.5mm, Pitch 1.27mm, IPC Low Density)
pins: 1 RA2 (io), 2 RA3 (io), 3 T0CKI (in), 4 ~{MCLR}/VPP (in), 5 VSS (power), 6 RB0 (io), 7 RB1 (io), 8 RB2 (io), 9 RB3 (io), 10 RB4 (io), 11 RB5 (io), 12 RB6 (io), 13 RB7 (io), 14 VDD (power), 15 OSC2/CLKOUT (out), 16 OSC1/CLKIN (in), 17 RA0 (io), 18 RA1 (io)

## PIC16HV540-04I/SS
designator U?
Enhanced PIC16C54 EPROM-Based 8-Bit CMOS Microcontroller with On-Chip Voltage Regulator, 4 MHz, 20-Pin SSOP, 3.5 to 15V Supply Range, Industrial Temperature; Manufacturer: Microchip; PartNumber: PIC16HV540-04I/SS; DatasheetVersion: revB, Mar-2002; PackageVersion: revBB, Aug-2009; PackageReference: SSOP-SS20; PackageDescription: 20-Lead Plastic Shrink Small Outline (SS) - 5.3mm Body [SSOP]; Supplier 1: Digi-Key; Supplier Part Number 1: PIC16HV540-04I/SS-ND; Supplier 2: Mouser; Supplier Part Number 2: 579-16HV540-04I/SS; Code_JEDEC: MO-150; ComponentLink1Description: Manufacturer URL; ComponentLink1URL: http://www.microchip.com/; ComponentLink2Description: Datasheet; ComponentLink2URL: http://ww1.microchip.com/downloads/en/DeviceDoc/40197b.pdf; ComponentLink3Description: Package Specification; ComponentLink3URL: http://www.microchip.com/stellent/groups/techpub_sg/documents/packagingspec/en012702.pdf
footprint SSOP-SS20_N (SOP, 20-Leads, Body 7.2x5.2mm, Pitch 0.65mm, IPC Medium Density)
footprint SSOP-SS20_L (SOP, 20-Leads, Body 7.2x5.2mm, Pitch 0.65mm, IPC High Density)
footprint SSOP-SS20_M (SOP, 20-Leads, Body 7.2x5.2mm, Pitch 0.65mm, IPC Low Density)
pins: 1 RA2 (io), 2 RA3 (io), 3 T0CKI (in), 4 ~{MCLR}/VPP (in), 5 VSS (power), 6 VSS (power), 7 RB0 (io), 8 RB1 (io), 9 RB2 (io), 10 RB3 (io), 11 RB4 (io), 12 RB5 (io), 13 RB6 (io), 14 RB7 (io), 15 VDD (power), 16 VDD (power), 17 OSC2/CLKOUT (out), 18 OSC1/CLKIN (in), 19 RA0 (io), 20 RA1 (io)

## PIC16HV540-20/P
designator U?
Enhanced PIC16C54 EPROM-Based 8-Bit CMOS Microcontroller with On-Chip Voltage Regulator, 20 MHz, 18-Pin PDIP, 3.5 to 15V Supply Range, Commercial Temperature; Manufacturer: Microchip; PartNumber: PIC16HV540-20/P; DatasheetVersion: revB, Mar-2002; PackageVersion: revBB, Aug-2009; PackageReference: PDIP300-P18; PackageDescription: 18-Lead Plastic Dual In-Line (P) - 300 mil Body [PDIP]; Supplier 1: Digi-Key; Supplier Part Number 1: PIC16HV540-20/P-ND; Supplier 2: Mouser; Supplier Part Number 2: 579-PIC16HV540-20/P; Code_JEDEC: MS-001; ComponentLink1Description: Manufacturer URL; ComponentLink1URL: http://www.microchip.com/; ComponentLink2Description: Datasheet; ComponentLink2URL: http://ww1.microchip.com/downloads/en/DeviceDoc/40197b.pdf; ComponentLink3Description: Package Specification; ComponentLink3URL: http://www.microchip.com/stellent/groups/techpub_sg/documents/packagingspec/en012702.pdf
footprint PDIP300-P18 (DIP, 18-Leads, Row Spacing 7.62mm, Pitch 2.54mm, Body 22.9x6.6mm)
pins: 1 RA2 (io), 2 RA3 (io), 3 T0CKI (in), 4 ~{MCLR}/VPP (in), 5 VSS (power), 6 RB0 (io), 7 RB1 (io), 8 RB2 (io), 9 RB3 (io), 10 RB4 (io), 11 RB5 (io), 12 RB6 (io), 13 RB7 (io), 14 VDD (power), 15 OSC2/CLKOUT (out), 16 OSC1/CLKIN (in), 17 RA0 (io), 18 RA1 (io)

## PIC16HV540-20/SO
designator U?
Enhanced PIC16C54 EPROM-Based 8-Bit CMOS Microcontroller with On-Chip Voltage Regulator, 20 MHz, 18-Pin SOIC, 3.5 to 15V Supply Range, Commercial Temperature; Manufacturer: Microchip; PartNumber: PIC16HV540-20/SO; DatasheetVersion: revB, Mar-2002; PackageVersion: revBB, Aug-2009; PackageReference: SOIC-SO18; PackageDescription: 18-Lead Plastic Small Outline (SO) - Wide 7.50mm Body [SOIC]; Supplier 1: Digi-Key; Supplier Part Number 1: PIC16HV540-20/SO-ND; Supplier 2: Mouser; Supplier Part Number 2: 579-PIC16HV540-20/SO; Code_JEDEC: MS-013; ComponentLink1Description: Manufacturer URL; ComponentLink1URL: http://www.microchip.com/; ComponentLink2Description: Datasheet; ComponentLink2URL: http://ww1.microchip.com/downloads/en/DeviceDoc/40197b.pdf; ComponentLink3Description: Package Specification; ComponentLink3URL: http://www.microchip.com/stellent/groups/techpub_sg/documents/packagingspec/en012702.pdf
footprint SOIC-SO18_N (SOIC, 18-Leads, Body 11.5x7.5mm, Pitch 1.27mm, IPC Medium Density)
footprint SOIC-SO18_L (SOIC, 18-Leads, Body 11.5x7.5mm, Pitch 1.27mm, IPC High Density)
footprint SOIC-SO18_M (SOIC, 18-Leads, Body 11.5x7.5mm, Pitch 1.27mm, IPC Low Density)
pins: 1 RA2 (io), 2 RA3 (io), 3 T0CKI (in), 4 ~{MCLR}/VPP (in), 5 VSS (power), 6 RB0 (io), 7 RB1 (io), 8 RB2 (io), 9 RB3 (io), 10 RB4 (io), 11 RB5 (io), 12 RB6 (io), 13 RB7 (io), 14 VDD (power), 15 OSC2/CLKOUT (out), 16 OSC1/CLKIN (in), 17 RA0 (io), 18 RA1 (io)

## PIC16HV540-20/SS
designator U?
Enhanced PIC16C54 EPROM-Based 8-Bit CMOS Microcontroller with On-Chip Voltage Regulator, 20 MHz, 20-Pin SSOP, 3.5 to 15V Supply Range, Commercial Temperature; Manufacturer: Microchip; PartNumber: PIC16HV540-20/SS; DatasheetVersion: revB, Mar-2002; PackageVersion: revBB, Aug-2009; PackageReference: SSOP-SS20; PackageDescription: 20-Lead Plastic Shrink Small Outline (SS) - 5.3mm Body [SSOP]; Supplier 1: Digi-Key; Supplier Part Number 1: PIC16HV540-20/SS-ND; Supplier 2: Mouser; Supplier Part Number 2: 579-PIC16HV540-20/SS; Code_JEDEC: MO-150; ComponentLink1Description: Manufacturer URL; ComponentLink1URL: http://www.microchip.com/; ComponentLink2Description: Datasheet; ComponentLink2URL: http://ww1.microchip.com/downloads/en/DeviceDoc/40197b.pdf; ComponentLink3Description: Package Specification; ComponentLink3URL: http://www.microchip.com/stellent/groups/techpub_sg/documents/packagingspec/en012702.pdf
footprint SSOP-SS20_N (SOP, 20-Leads, Body 7.2x5.2mm, Pitch 0.65mm, IPC Medium Density)
footprint SSOP-SS20_L (SOP, 20-Leads, Body 7.2x5.2mm, Pitch 0.65mm, IPC High Density)
footprint SSOP-SS20_M (SOP, 20-Leads, Body 7.2x5.2mm, Pitch 0.65mm, IPC Low Density)
pins: 1 RA2 (io), 2 RA3 (io), 3 T0CKI (in), 4 ~{MCLR}/VPP (in), 5 VSS (power), 6 VSS (power), 7 RB0 (io), 8 RB1 (io), 9 RB2 (io), 10 RB3 (io), 11 RB4 (io), 12 RB5 (io), 13 RB6 (io), 14 RB7 (io), 15 VDD (power), 16 VDD (power), 17 OSC2/CLKOUT (out), 18 OSC1/CLKIN (in), 19 RA0 (io), 20 RA1 (io)

## PIC16HV540-20I/P
designator U?
Enhanced PIC16C54 EPROM-Based 8-Bit CMOS Microcontroller with On-Chip Voltage Regulator, 20 MHz, 18-Pin PDIP, 3.5 to 15V Supply Range, Industrial Temperature; Manufacturer: Microchip; PartNumber: PIC16HV540-20I/P; DatasheetVersion: revB, Mar-2002; PackageVersion: revBB, Aug-2009; PackageReference: PDIP300-P18; PackageDescription: 18-Lead Plastic Dual In-Line (P) - 300 mil Body [PDIP]; Supplier 1: Digi-Key; Supplier Part Number 1: PIC16HV540-20I/P-ND; Supplier 2: Mouser; Supplier Part Number 2: 579-PIC16HV540-20I/P; Code_JEDEC: MS-001; ComponentLink1Description: Manufacturer URL; ComponentLink1URL: http://www.microchip.com/; ComponentLink2Description: Datasheet; ComponentLink2URL: http://ww1.microchip.com/downloads/en/DeviceDoc/40197b.pdf; ComponentLink3Description: Package Specification; ComponentLink3URL: http://www.microchip.com/stellent/groups/techpub_sg/documents/packagingspec/en012702.pdf
footprint PDIP300-P18 (DIP, 18-Leads, Row Spacing 7.62mm, Pitch 2.54mm, Body 22.9x6.6mm)
pins: 1 RA2 (io), 2 RA3 (io), 3 T0CKI (in), 4 ~{MCLR}/VPP (in), 5 VSS (power), 6 RB0 (io), 7 RB1 (io), 8 RB2 (io), 9 RB3 (io), 10 RB4 (io), 11 RB5 (io), 12 RB6 (io), 13 RB7 (io), 14 VDD (power), 15 OSC2/CLKOUT (out), 16 OSC1/CLKIN (in), 17 RA0 (io), 18 RA1 (io)

## PIC16HV540-20I/SO
designator U?
Enhanced PIC16C54 EPROM-Based 8-Bit CMOS Microcontroller with On-Chip Voltage Regulator, 20 MHz, 18-Pin SOIC, 3.5 to 15V Supply Range, Industrial Temperature; Manufacturer: Microchip; PartNumber: PIC16HV540-20I/SO; DatasheetVersion: revB, Mar-2002; PackageVersion: revBB, Aug-2009; PackageReference: SOIC-SO18; PackageDescription: 18-Lead Plastic Small Outline (SO) - Wide 7.50mm Body [SOIC]; Supplier 1: Digi-Key; Supplier Part Number 1: PIC16HV540-20I/SO-ND; Supplier 2: Mouser; Supplier Part Number 2: 579-16HV540-20I/SO; Code_JEDEC: MS-013; ComponentLink1Description: Manufacturer URL; ComponentLink1URL: http://www.microchip.com/; ComponentLink2Description: Datasheet; ComponentLink2URL: http://ww1.microchip.com/downloads/en/DeviceDoc/40197b.pdf; ComponentLink3Description: Package Specification; ComponentLink3URL: http://www.microchip.com/stellent/groups/techpub_sg/documents/packagingspec/en012702.pdf
footprint SOIC-SO18_N (SOIC, 18-Leads, Body 11.5x7.5mm, Pitch 1.27mm, IPC Medium Density)
footprint SOIC-SO18_L (SOIC, 18-Leads, Body 11.5x7.5mm, Pitch 1.27mm, IPC High Density)
footprint SOIC-SO18_M (SOIC, 18-Leads, Body 11.5x7.5mm, Pitch 1.27mm, IPC Low Density)
pins: 1 RA2 (io), 2 RA3 (io), 3 T0CKI (in), 4 ~{MCLR}/VPP (in), 5 VSS (power), 6 RB0 (io), 7 RB1 (io), 8 RB2 (io), 9 RB3 (io), 10 RB4 (io), 11 RB5 (io), 12 RB6 (io), 13 RB7 (io), 14 VDD (power), 15 OSC2/CLKOUT (out), 16 OSC1/CLKIN (in), 17 RA0 (io), 18 RA1 (io)

## PIC16HV540-20I/SS
designator U?
Enhanced PIC16C54 EPROM-Based 8-Bit CMOS Microcontroller with On-Chip Voltage Regulator, 20 MHz, 20-Pin SSOP, 3.5 to 15V Supply Range, Industrial Temperature; Manufacturer: Microchip; PartNumber: PIC16HV540-20I/SS; DatasheetVersion: revB, Mar-2002; PackageVersion: revBB, Aug-2009; PackageReference: SSOP-SS20; PackageDescription: 20-Lead Plastic Shrink Small Outline (SS) - 5.3mm Body [SSOP]; Supplier 1: Digi-Key; Supplier Part Number 1: PIC16HV540-20I/SS-ND; Supplier 2: Mouser; Supplier Part Number 2: 579-16HV540-20I/SS; Code_JEDEC: MO-150; ComponentLink1Description: Manufacturer URL; ComponentLink1URL: http://www.microchip.com/; ComponentLink2Description: Datasheet; ComponentLink2URL: http://ww1.microchip.com/downloads/en/DeviceDoc/40197b.pdf; ComponentLink3Description: Package Specification; ComponentLink3URL: http://www.microchip.com/stellent/groups/techpub_sg/documents/packagingspec/en012702.pdf
footprint SSOP-SS20_N (SOP, 20-Leads, Body 7.2x5.2mm, Pitch 0.65mm, IPC Medium Density)
footprint SSOP-SS20_L (SOP, 20-Leads, Body 7.2x5.2mm, Pitch 0.65mm, IPC High Density)
footprint SSOP-SS20_M (SOP, 20-Leads, Body 7.2x5.2mm, Pitch 0.65mm, IPC Low Density)
pins: 1 RA2 (io), 2 RA3 (io), 3 T0CKI (in), 4 ~{MCLR}/VPP (in), 5 VSS (power), 6 VSS (power), 7 RB0 (io), 8 RB1 (io), 9 RB2 (io), 10 RB3 (io), 11 RB4 (io), 12 RB5 (io), 13 RB6 (io), 14 RB7 (io), 15 VDD (power), 16 VDD (power), 17 OSC2/CLKOUT (out), 18 OSC1/CLKIN (in), 19 RA0 (io), 20 RA1 (io)

## PIC16HV540/JW
designator U?
Enhanced PIC16C54 EPROM-Based 8-Bit CMOS Microcontroller with On-Chip Voltage Regulator, 18-Pin CERDIP, UV Erasable, 3.5 to 15V Supply Range, Commercial Temperature; Manufacturer: Microchip; PartNumber: PIC16HV540/JW; DatasheetVersion: revB, Mar-2002; PackageVersion: revBB, Aug-2009; PackageReference: CERDIP300-JW18; PackageDescription: 18-Lead Ceramic Dual In-Line with Window (JW) - .300" Body [CERDIP]; Supplier 1: Digi-Key; Supplier Part Number 1: PIC16HV540/JW-ND; Supplier 2: Mouser; Supplier Part Number 2: 579-PIC16HV540/JW; Code_JEDEC: MO-036; ComponentLink1Description: Manufacturer URL; ComponentLink1URL: http://www.microchip.com/; ComponentLink2Description: Datasheet; ComponentLink2URL: http://ww1.microchip.com/downloads/en/DeviceDoc/40197b.pdf; ComponentLink3Description: Package Specification; ComponentLink3URL: http://www.microchip.com/stellent/groups/techpub_sg/documents/packagingspec/en012702.pdf
footprint CERDIP300-JW18 (DIP, 18-Leads, Row Spacing 7.62mm, Pitch 2.54mm, Body 22.8x7.3mm, Window)
pins: 1 RA2 (io), 2 RA3 (io), 3 T0CKI (in), 4 ~{MCLR}/VPP (in), 5 VSS (power), 6 RB0 (io), 7 RB1 (io), 8 RB2 (io), 9 RB3 (io), 10 RB4 (io), 11 RB5 (io), 12 RB6 (io), 13 RB7 (io), 14 VDD (power), 15 OSC2/CLKOUT (out), 16 OSC1/CLKIN (in), 17 RA0 (io), 18 RA1 (io)

## PIC16HV540T-04/SO
designator U?
Enhanced PIC16C54 EPROM-Based 8-Bit CMOS Microcontroller with On-Chip Voltage Regulator, 4 MHz, 18-Pin SOIC, 3.5 to 15V Supply Range, Commercial Temperature, Tape and Reel; Manufacturer: Microchip; PartNumber: PIC16HV540T-04/SO; DatasheetVersion: revB, Mar-2002; PackageVersion: revBB, Aug-2009; PackageReference: SOIC-SO18; PackageDescription: 18-Lead Plastic Small Outline (SO) - Wide 7.50mm Body [SOIC]; Supplier 1: Digi-Key; Supplier Part Number 1: PIC16HV540T-04/SO-ND; Supplier 2: Mouser; Supplier Part Number 2: 579-16HV540T-04/SO; Code_JEDEC: MS-013; ComponentLink1Description: Manufacturer URL; ComponentLink1URL: http://www.microchip.com/; ComponentLink2Description: Datasheet; ComponentLink2URL: http://ww1.microchip.com/downloads/en/DeviceDoc/40197b.pdf; ComponentLink3Description: Package Specification; ComponentLink3URL: http://www.microchip.com/stellent/groups/techpub_sg/documents/packagingspec/en012702.pdf
footprint SOIC-SO18_N (SOIC, 18-Leads, Body 11.5x7.5mm, Pitch 1.27mm, IPC Medium Density)
footprint SOIC-SO18_L (SOIC, 18-Leads, Body 11.5x7.5mm, Pitch 1.27mm, IPC High Density)
footprint SOIC-SO18_M (SOIC, 18-Leads, Body 11.5x7.5mm, Pitch 1.27mm, IPC Low Density)
pins: 1 RA2 (io), 2 RA3 (io), 3 T0CKI (in), 4 ~{MCLR}/VPP (in), 5 VSS (power), 6 RB0 (io), 7 RB1 (io), 8 RB2 (io), 9 RB3 (io), 10 RB4 (io), 11 RB5 (io), 12 RB6 (io), 13 RB7 (io), 14 VDD (power), 15 OSC2/CLKOUT (out), 16 OSC1/CLKIN (in), 17 RA0 (io), 18 RA1 (io)